# Altium schematic symbol library SA612A.Schlib: 1 symbol
Pins are listed as number, name and electrical type; pins without a type are passive.

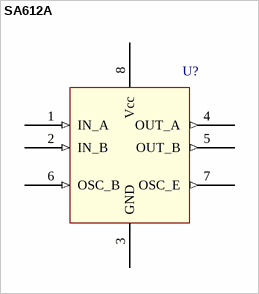
[diagram p0: symbol SA612A]

## SA612A
designator U?  (value not drawn)
pins: 1 IN_A (in), 2 IN_B (in), 3 GND (power), 4 OUT_A (out), 5 OUT_B (out), 6 OSC_B (in), 7 OSC_E (out), 8 Vcc (power)